# Altium footprint library PowerLib.PcbLib: 5 footprints
Each footprint in its own frame and in the unit in brackets; x right, y up, seen from the top. Pads: shape width x height; smd on the part's side, far side on the other; paste and mask are expansions set on the pad; w line width, h text height; cw(c..) or ccw(c..) is an arc to the next point about the centre after c.
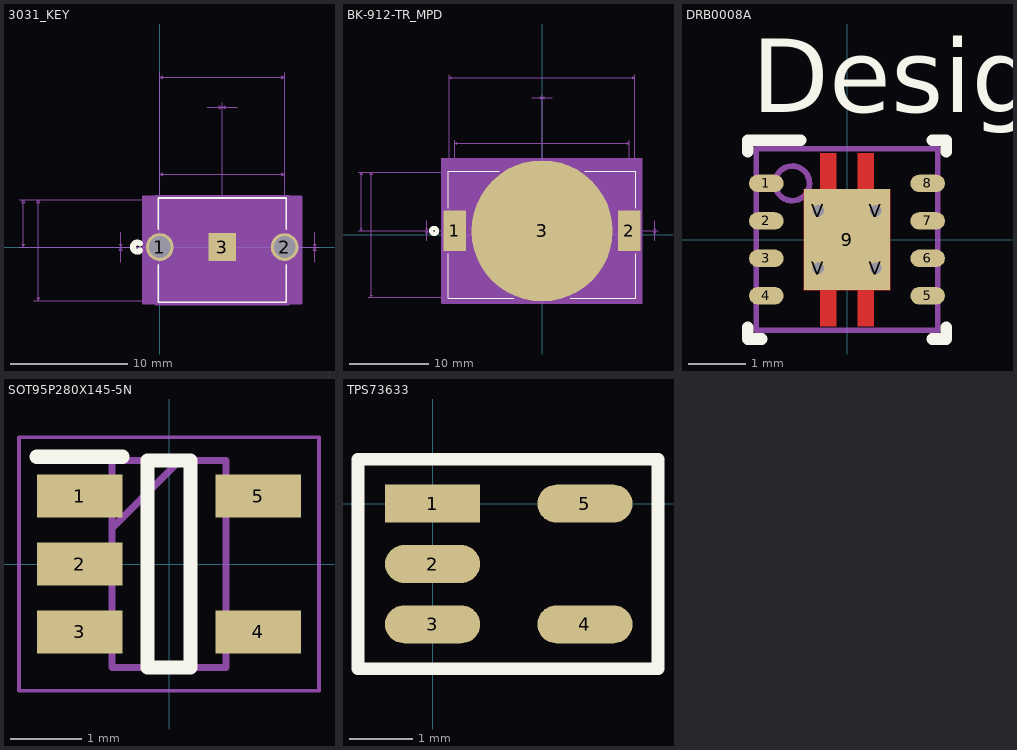
[diagram p0: the footprints below, top view; thin cyan lines are the x and y axes]

## 3031_KEY [mil]
pads (3):
  round 93 hole 73 mask+0: 1(0,0) 2(418,0)
  rect 93x93 smd: 3(209,0)
Top Overlay:
  lines w6: -5,-59.39 -5,-185 423,-185 423,-59.39 ; -5,59.39 -5,164 423,164 423,59.39
  lines w20: -65.57,-11.67 cw(c-75,0) -65.57,11.67
Bottom Overlay:
  circle w20: c-75,0 r15
Mechanical 5:
  region: -15,174 433,174 433,-195 -15,-195
Mechanical 7:
  lines w1: -471.5,0 209,0 ; -471.5,159 0,159 ; -421.5,-180 0,-180 ; -421.5,159 0,159 ; -131.5,-50 -131.5,0 ; -131.5,50 -131.5,0 ; 0,259 0,0 ; 0,584 0,159 ; 159,469 209,469 ; 259,469 209,469 ; 418,0 418,259 ; 418,159 418,584 ; 518,-50 518,0 ; 518,50 518,0 ; -456.5,0 -456.5,159 ; -456.5,0 -461.5,10 -451.5,10 -456.5,0 ; -456.5,159 -461.5,149 -451.5,149 -456.5,159 ; -406.5,-180 -406.5,159 ; -406.5,-180 -411.5,-170 -401.5,-170 -406.5,-180 ; -406.5,159 -411.5,149 -401.5,149 -406.5,159 ; -131.5,0 -136.5,10 -126.5,10 -131.5,0 ; -131.5,0 -136.5,-10 -126.5,-10 -131.5,0 ; 0,0 533,0 0,0 ; 0,244 418,244 ; 0,244 10,249 10,239 0,244 ; 0,569 418,569 ; 0,569 10,574 10,564 0,569 ; 209,0 209,484 209,0 ; 209,0 -146.5,0 209,0 ; 209,469 199,474 199,464 209,469 ; 209,469 219,474 219,464 209,469 ; 418,244 408,249 408,239 418,244 ; 418,569 408,574 408,564 418,569 ; 518,0 513,10 523,10 518,0 ; 518,0 513,-10 523,-10 518,0
  text "Default Padstyle: EX93Y93D73P" at -153.5,-340 h50
  text "1st Mtg Padstyle: RX93Y93D0T" at -141,-415 h50
  text "2nd Mtg Padstyle: RX50Y100D40P" at -166,-490 h50
  text "3rd Mtg Padstyle: RX100Y50D40P" at -166,-565 h50
  text "Left Mtg Padstyle: RX50Y100D30P" at -178.5,-640 h50
  text "Right Mtg Padstyle: RX50Y100D30P" at -191,-715 h50
  text "Alt Padstyle 1: OX60Y90D30P" at -128.5,-790 h50
  text "Alt Padstyle 2: OX90Y60D30P" at -128.5,-865 h50
  text "0.418in/10.617mm" at -204.5,264 h25
  text "0in/0mm" at 165.25,489 h25
  text "0.418in/10.617mm" at 109,589 h25
  text "0in/0mm" at 538,-12.5 h25
  text "0in/0mm" at -239,-12.5 h25
  text "0.159in/4.039mm" at -664,67 h25
  text "0.339in/8.611mm" at -614,-23 h25
Mechanical 13:
  circle w20: c0,75 r15
  lines w1: 0,-180 418,-180 418,159 0,159 0,-180
Mechanical 15:
  region: 474.5,169 -56.5,169 -56.5,-190 474.5,-190
  lines w6: -56.5,-190 -56.5,169 474.5,169 474.5,-190 -56.5,-190
3D body: height 10, standoff 0, extent 0,0 10,10

## BK-912-TR_MPD [mm]
pads (3):
  rect 2.794x5.08 smd paste+0 mask+0: 1(-10.985,0.509) 2(10.985,0.509)
  round 17.78 smd: 3(0,0.509)
Top Overlay:
  circle w0.508: c-13.589,0.509 r0.381
  lines w0.152: -11.811,-2.364 -11.811,-8.001 -3.555,-8.001 ; -11.811,3.382 -11.811,8.001 -5.379,8.001 ; 3.555,-8.001 11.811,-8.001 11.811,-2.364 ; 5.379,8.001 11.811,8.001 11.811,3.382
Bottom Overlay:
  circle w0.508: c-13.589,0.509 r0.381
Mechanical 5:
  region: -12.065,8.255 12.065,8.255 12.065,-8.255 -12.065,-8.255
Mechanical 7:
  lines w0.025: -23.177,0.509 0,0.509 ; -23.177,7.874 -11.684,7.874 ; -21.907,-7.874 -11.684,-7.874 ; -21.907,7.874 -11.684,7.874 ; -14.541,-0.761 -14.541,0.509 ; -14.541,1.779 -14.541,0.509 ; -11.684,20.194 -11.684,7.874 ; -10.985,11.939 -10.985,0.509 ; -1.27,17.273 0,17.273 ; 1.27,17.273 0,17.273 ; 10.985,0.509 10.985,11.939 ; 11.684,7.874 11.684,20.194 ; 14.224,-0.761 14.224,0.509 ; 14.224,1.779 14.224,0.509 ; -22.796,0.509 -22.669,0.763 -22.923,0.763 -22.796,0.509 ; -22.796,0.509 -22.796,7.874 ; -22.796,7.874 -22.669,7.62 -22.923,7.62 -22.796,7.874 ; -21.526,-7.874 -21.399,-7.62 -21.653,-7.62 -21.526,-7.874 ; -21.526,-7.874 -21.526,7.874 ; -21.526,7.874 -21.399,7.62 -21.653,7.62 -21.526,7.874 ; -14.541,0.509 -14.414,0.255 -14.668,0.255 -14.541,0.509 ; -14.541,0.509 -14.414,0.763 -14.668,0.763 -14.541,0.509 ; -11.684,19.813 -11.43,19.686 -11.43,19.94 -11.684,19.813 ; -11.684,19.813 11.684,19.813 ; -10.985,0.509 14.605,0.509 -10.985,0.509 ; -10.985,11.558 -10.731,11.431 -10.731,11.685 -10.985,11.558 ; -10.985,11.558 10.985,11.558 ; 0,0.509 -14.922,0.509 0,0.509 ; 0,0.509 0,17.654 0,0.509 ; 0,17.273 0.254,17.146 0.254,17.4 0,17.273 ; 0,17.273 -0.254,17.146 -0.254,17.4 0,17.273 ; 10.985,11.558 10.731,11.431 10.731,11.685 10.985,11.558 ; 11.684,19.813 11.43,19.686 11.43,19.94 11.684,19.813 ; 14.224,0.509 14.351,0.255 14.097,0.255 14.224,0.509 ; 14.224,0.509 14.351,0.763 14.097,0.763 14.224,0.509
  text "0.62in/15.748mm" at -26.796,-0.318 h0.64
  text "0.29in/7.365mm" at -27.749,3.874 h0.64
  text "0in/0mm" at -17.271,0.192 h0.64
  text "0in/0mm" at 14.732,0.192 h0.64
  text "0.92in/23.368mm" at -2.381,20.321 h0.64
  text "0in/0mm" at -1.111,17.781 h0.64
  text "0.865in/21.97mm" at -18.859,12.066 h0.64
  text "Alt Padstyle 2: b229_152h76" at -8.572,-25.78 h1.27
  text "Alt Padstyle 1: b152_229h76" at -8.572,-23.875 h1.27
  text "Right Mtg Padstyle: c152h76" at -8.572,-21.97 h1.27
  text "Left Mtg Padstyle: c152h76" at -8.255,-20.065 h1.27
  text "3rd Mtg Padstyle: c178h178" at -8.255,-18.16 h1.27
  text "2nd Mtg Padstyle: c178h178" at -8.255,-16.255 h1.27
  text "1st Mtg Padstyle: c1778" at -7.302,-14.35 h1.27
  text "Default Padstyle: r279_508" at -8.255,-12.445 h1.27
Mechanical 13:
  circle w0.508: c-10.985,2.414 r0.381
  lines w0.025: -11.684,-7.874 -11.684,7.874 11.684,7.874 11.684,-7.874 -11.684,-7.874
Mechanical 15:
  region: 12.636,9.653 -12.636,9.653 -12.636,-8.635 12.636,-8.635
  lines w0.152: -12.636,-8.635 12.636,-8.635 12.636,9.653 -12.636,9.653 -12.636,-8.635
3D body: height 0.25, standoff 0, extent 0,0 0.254,0.254

## DRB0008A [mm]
pads (13):
  oval 0.6x0.3 smd paste+0 mask+0.051: 1(-1.4,0.975) 2(-1.4,0.325) 3(-1.4,-0.325) 4(-1.4,-0.975) 5(1.4,-0.975) 6(1.4,-0.325) 7(1.4,0.325) 8(1.4,0.975)
  rect 1.5x1.75 smd paste-0.862 mask+0.051: 9(0,0)
  round 0.5 hole 0.203 mask+0.051: V(-0.5,-0.5) V(-0.5,0.5) V(0.5,-0.5) V(0.5,0.5)
Top Layer:
  region: -0.185,-1.5 -0.465,-1.5 -0.465,-0.875 -0.75,-0.875 -0.75,0.875 -0.465,0.875 -0.465,1.5 -0.185,1.5 -0.185,0.875 0.185,0.875 0.185,1.5 0.465,1.5 0.465,0.875 0.75,0.875 0.75,-0.875 0.465,-0.875 0.465,-1.5 0.185,-1.5 0.185,-0.875 -0.185,-0.875
Top Overlay:
  lines w0.2: -1.725,-1.525 -1.725,-1.725 -1.475,-1.725 ; -1.725,1.525 -1.725,1.725 -0.8,1.725 ; 1.475,-1.725 1.725,-1.725 1.725,-1.525 ; 1.475,1.725 1.725,1.725 1.725,1.525
  text "Designator9" at -1.651,2.21 h1.27
Top Paste:
  region: -0.691,0.793 -0.691,-0.793 0.692,-0.793 0.692,0.793
Top Solder:
  region: -0.185,-1.551 -0.465,-1.551 -0.475,-1.55 -0.484,-1.547 -0.493,-1.542 -0.501,-1.536 -0.507,-1.528 -0.512,-1.519 -0.515,-1.51 -0.516,-1.5 -0.516,-0.926 -0.75,-0.926 -0.76,-0.925 -0.769,-0.922 -0.778,-0.917 -0.786,-0.911 -0.792,-0.903 -0.797,-0.894 -0.8,-0.885 -0.801,-0.875 -0.801,0.875 -0.8,0.885 -0.797,0.894 -0.792,0.903 -0.786,0.911 -0.778,0.917 -0.769,0.922 -0.76,0.925 -0.75,0.926 -0.516,0.926 -0.516,1.5 -0.515,1.51 -0.512,1.519 -0.507,1.528 -0.501,1.536 -0.493,1.542 -0.484,1.547 -0.475,1.55 -0.465,1.551 -0.185,1.551 -0.175,1.55 -0.166,1.547 -0.157,1.542 -0.149,1.536 -0.143,1.528 -0.138,1.519 -0.135,1.51 -0.134,1.5 -0.134,0.926 0.134,0.926 0.134,1.5 0.135,1.51 0.138,1.519 0.143,1.528 0.149,1.536 0.157,1.542 0.166,1.547 0.175,1.55 0.185,1.551 0.465,1.551 0.475,1.55 0.484,1.547 0.493,1.542 0.501,1.536 0.507,1.528 0.512,1.519 0.515,1.51 0.516,1.5 0.516,0.926 0.75,0.926 0.76,0.925 0.769,0.922 0.778,0.917 0.786,0.911 0.792,0.903 0.797,0.894 0.8,0.885 0.801,0.875 0.801,-0.875 0.8,-0.885 0.797,-0.894 0.792,-0.903 0.786,-0.911 0.778,-0.917 0.769,-0.922 0.76,-0.925 0.75,-0.926 0.516,-0.926 0.516,-1.5 0.515,-1.51 0.512,-1.519 0.507,-1.528 0.501,-1.536 0.493,-1.542 0.484,-1.547 0.475,-1.55 0.465,-1.551 0.185,-1.551 0.175,-1.55 0.166,-1.547 0.157,-1.542 0.149,-1.536 0.143,-1.528 0.138,-1.519 0.135,-1.51 0.134,-1.5 0.134,-0.926 -0.134,-0.926 -0.134,-1.5 -0.135,-1.51 -0.138,-1.519 -0.143,-1.528 -0.149,-1.536 -0.157,-1.542 -0.166,-1.547 -0.175,-1.55
Mechanical 13:
  circle w0.1: c-0.95,0.975 r0.3
  lines w0.1: -1.575,-1.575 -1.575,1.575 1.575,1.575 1.575,-1.575 -1.575,-1.575
  text ".Designator" at -1.397,-1.651 h1.27
3D body: height 0.25, standoff 0, extent 0,0 0.254,0.254

## SOT95P280X145-5N [mm]
pads (5):
  rect 1.2x0.6 smd: 1(-1.25,0.95) 2(-1.25,0) 3(-1.25,-0.95) 4(1.25,-0.95) 5(1.25,0.95)
Top Overlay:
  lines w0.2: -1.85,1.5 -0.65,1.5 ; -0.3,-1.45 -0.3,1.45 0.3,1.45 0.3,-1.45 -0.3,-1.45
Mechanical 13:
  lines w0.1: -0.8,0.5 0.15,1.45 ; -0.8,-1.45 -0.8,1.45 0.8,1.45 0.8,-1.45 -0.8,-1.45
Mechanical 15:
  lines w0.05: -2.1,-1.775 -2.1,1.775 2.1,1.775 2.1,-1.775 -2.1,-1.775
3D body "TPS73601DBVT.stp": height 1.2, standoff 0, extent -1.4,-1.45 1.4,1.45

## TPS73633 [mm]
pads (5):
  rect 1.5x0.6 smd: 1(0,0)
  oval 1.5x0.6 smd: 2(0,-0.95) 3(0,-1.9) 4(2.4,-1.9) 5(2.4,0)
Top Overlay:
  lines w0.2: -1.175,-2.6 -1.175,0.7 3.55,0.7 3.55,-2.6 -1.175,-2.6